# Altium footprint library TAS5431QPWPRQ1.PcbLib: 4 footprints
Each footprint in its own frame and in the unit in brackets; x right, y up, seen from the top. Pads: shape width x height; smd on the part's side, far side on the other; paste and mask are expansions set on the pad; w line width, h text height; cw(c..) or ccw(c..) is an arc to the next point about the centre after c.
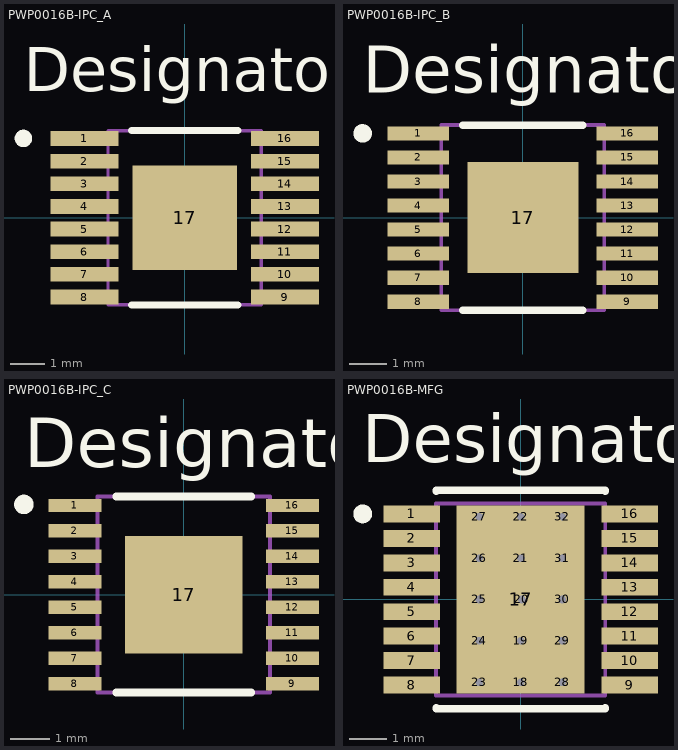
[diagram p0: the footprints below, top view; thin cyan lines are the x and y axes]

## PWP0016B-IPC_A [mm]
pads (17):
  rect 1.955x0.421 smd paste+0 mask+0: 1(-2.875,2.275) 2(-2.875,1.625) 3(-2.875,0.975) 4(-2.875,0.325) 5(-2.875,-0.325) 6(-2.875,-0.975) 7(-2.875,-1.625) 8(-2.875,-2.275) 9(2.875,-2.275) 10(2.875,-1.625) 11(2.875,-0.975) 12(2.875,-0.325) 13(2.875,0.325) 14(2.875,0.975) 15(2.875,1.625) 16(2.875,2.275)
  rect 3x3 smd paste-1.487 mask+0: 17(0,0)
Top Overlay:
  circle w0.25: c-4.628,2.275 r0.125
  lines w0.2: -1.523,-2.5 1.523,-2.5 ; -1.523,2.5 1.523,2.5
  text "Designator129" at -4.623,3.632 h1.27
Top Paste:
  region: -0.949,0.949 -0.949,-0.949 0.949,-0.949 0.949,0.949
Mechanical 13:
  lines w0.1: -2.2,-2.5 -2.2,2.5 2.2,2.5 2.2,-2.5 -2.2,-2.5

## PWP0016B-IPC_B [mm]
pads (17):
  rect 1.655x0.381 smd paste+0 mask+0: 1(-2.825,2.275) 2(-2.825,1.625) 3(-2.825,0.975) 4(-2.825,0.325) 5(-2.825,-0.325) 6(-2.825,-0.975) 7(-2.825,-1.625) 8(-2.825,-2.275) 9(2.825,-2.275) 10(2.825,-1.625) 11(2.825,-0.975) 12(2.825,-0.325) 13(2.825,0.325) 14(2.825,0.975) 15(2.825,1.625) 16(2.825,2.275)
  rect 3x3 smd paste-1.487 mask+0: 17(0,0)
Top Overlay:
  circle w0.25: c-4.328,2.275 r0.125
  lines w0.2: -1.623,-2.5 1.623,-2.5 ; -1.623,2.5 1.623,2.5
  text "Designator128" at -4.318,3.378 h1.27
Top Paste:
  region: -0.949,0.949 -0.949,-0.949 0.949,-0.949 0.949,0.949
Mechanical 13:
  lines w0.1: -2.2,-2.5 -2.2,2.5 2.2,2.5 2.2,-2.5 -2.2,-2.5

## PWP0016B-IPC_C [mm]
pads (17):
  rect 1.355x0.341 smd paste+0 mask+0: 1(-2.775,2.275) 2(-2.775,1.625) 3(-2.775,0.975) 4(-2.775,0.325) 5(-2.775,-0.325) 6(-2.775,-0.975) 7(-2.775,-1.625) 8(-2.775,-2.275) 9(2.775,-2.275) 10(2.775,-1.625) 11(2.775,-0.975) 12(2.775,-0.325) 13(2.775,0.325) 14(2.775,0.975) 15(2.775,1.625) 16(2.775,2.275)
  rect 3x3 smd paste-1.487 mask+0: 17(0,0)
Top Overlay:
  circle w0.25: c-4.078,2.3 r0.125
  lines w0.2: -1.723,-2.5 1.723,-2.5 ; -1.723,2.5 1.723,2.5
  text "Designator127" at -4.072,3.243 h1.27
Top Paste:
  region: -0.949,0.949 -0.949,-0.949 0.949,-0.949 0.949,0.949
Mechanical 13:
  lines w0.1: -2.2,-2.5 -2.2,2.5 2.2,2.5 2.2,-2.5 -2.2,-2.5

## PWP0016B-MFG [mm]
pads (32):
  rect 1.5x0.45 smd paste+0 mask+0: 1(-2.9,2.275) 2(-2.9,1.625) 3(-2.9,0.975) 4(-2.9,0.325) 5(-2.9,-0.325) 6(-2.9,-0.975) 7(-2.9,-1.625) 8(-2.9,-2.275) 9(2.9,-2.275) 10(2.9,-1.625) 11(2.9,-0.975) 12(2.9,-0.325) 13(2.9,0.325) 14(2.9,0.975) 15(2.9,1.625) 16(2.9,2.275)
  rect 3.4x5 smd paste-2.487 mask-2.489: 17(0,0)
  round 0.5 / inner round 1.524 / far side round 0.5 hole 0.203 paste-0.25 mask+0: 18(0,-2.2) 19(0,-1.1) 20(0.025,0) 21(0,1.1) 22(0,2.2) 23(-1.1,-2.2) 24(-1.1,-1.1) 25(-1.1,0) 26(-1.1,1.1) 27(-1.1,2.2) 28(1.1,-2.2) 29(1.1,-1.1) 30(1.1,0) 31(1.1,1.1) 32(1.1,2.2)
Top Overlay:
  circle w0.25: c-4.2,2.275 r0.125
  lines w0.2: -2.25,-2.875 -2.25,-2.9 2.25,-2.9 2.25,-2.875 ; -2.25,2.875 -2.25,2.9 2.25,2.9 2.25,2.875
  text "Designator126" at -4.205,3.642 h1.27
Top Paste:
  region: 1.45,1.5 1.5,1.45 1.5,-1.45 1.45,-1.5 -1.45,-1.5 -1.5,-1.45 -1.5,1.45 -1.45,1.5
Top Solder:
  region: 1.45,1.5 1.5,1.45 1.5,-1.45 1.45,-1.5 -1.45,-1.5 -1.5,-1.45 -1.5,1.45 -1.45,1.5
Mechanical 13:
  lines w0.1: -2.25,-2.55 -2.25,2.55 2.25,2.55 2.25,-2.55 -2.25,-2.55